# Altium footprint library con-mini-fit.PcbLib: 51 footprints (part 3 of 4)
Each footprint in its own frame and in the unit in brackets; x right, y up, seen from the top. Pads: shape width x height; smd on the part's side, far side on the other; paste and mask are expansions set on the pad; w line width, h text height; cw(c..) or ccw(c..) is an arc to the next point about the centre after c.
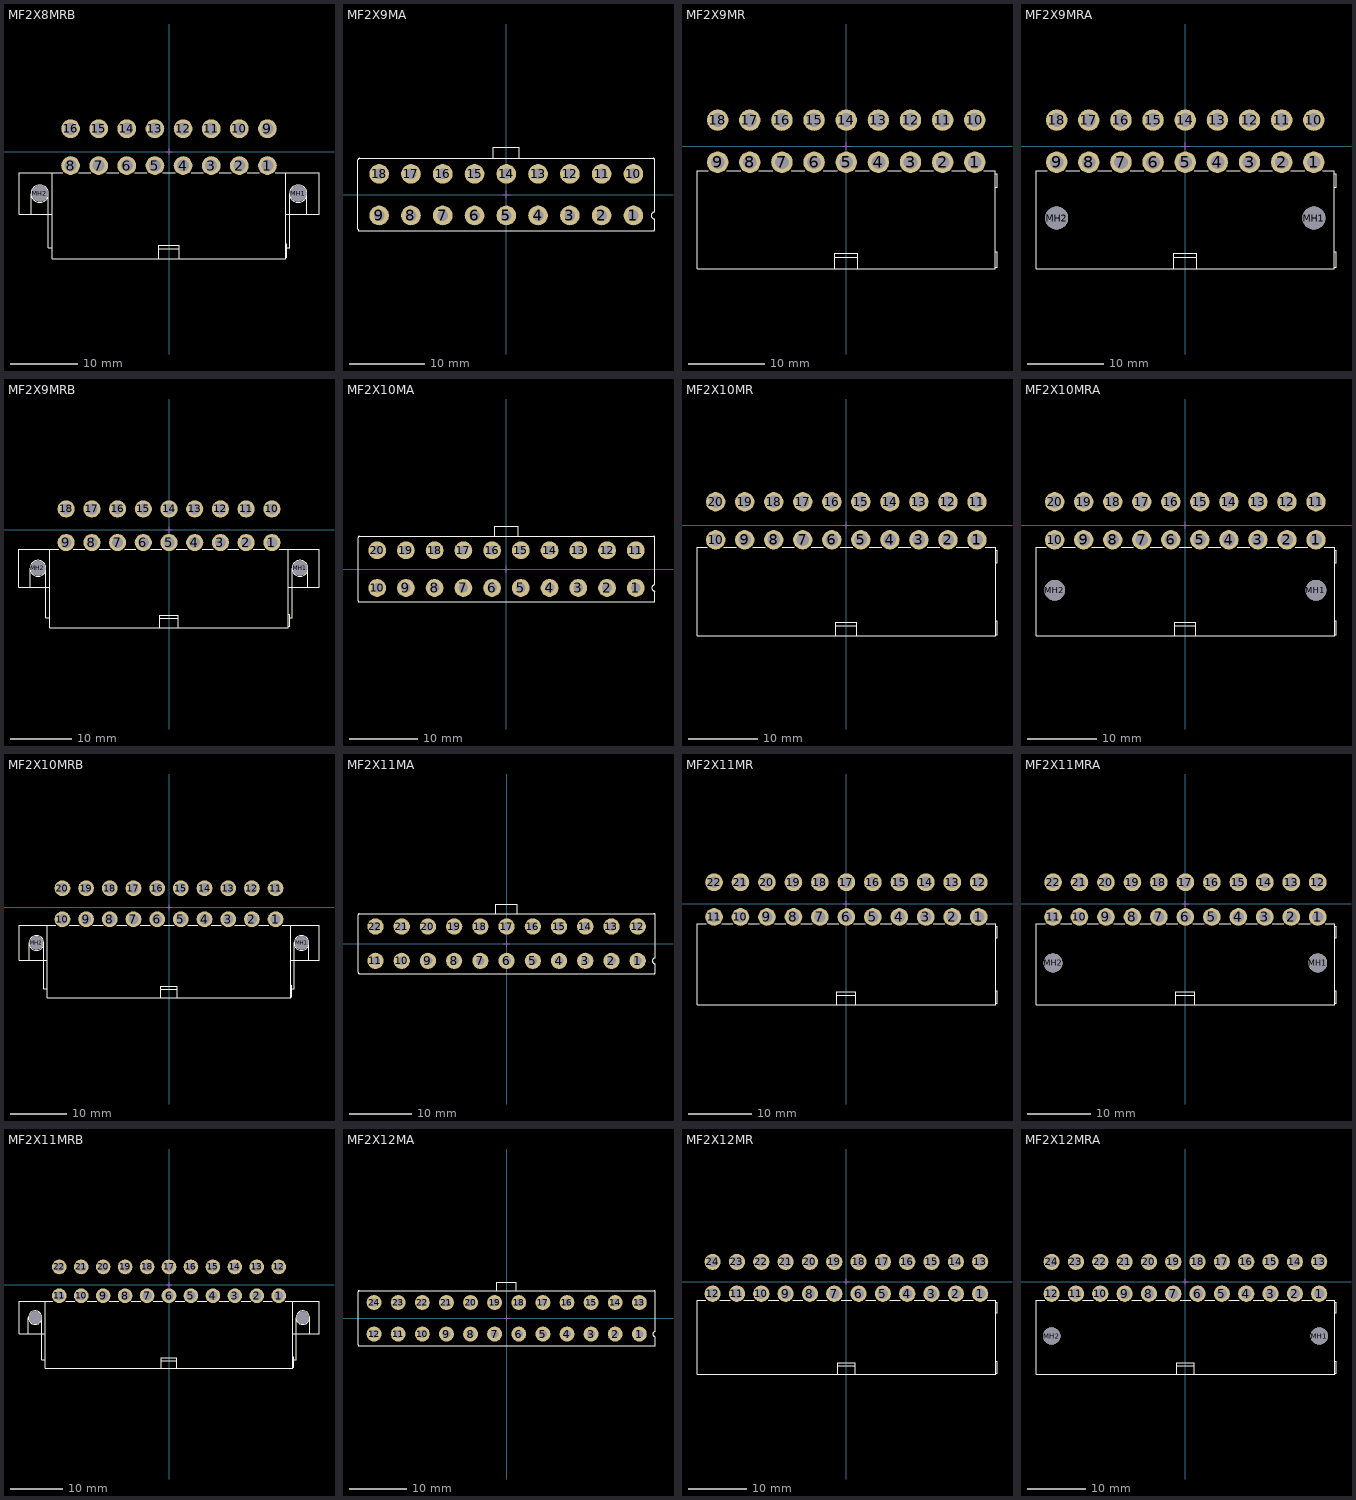
[diagram p2: the footprints below, top view; thin cyan lines are the x and y axes]

## MF2X8MRB [mm]
pads (18):
  round 2.8 / inner round 1.524 / far side round 2.8 hole 1.8: 1(14.7,-2.1) 2(10.5,-2.1) 3(6.3,-2.1) 4(2.1,-2.1) 5(-2.1,-2.1) 6(-6.3,-2.1) 7(-10.5,-2.1) 8(-14.7,-2.1) 9(14.7,3.4) 10(10.5,3.4) 11(6.3,3.4) 12(2.1,3.4) 13(-2.1,3.4) 14(-6.3,3.4) 15(-10.5,3.4) 16(-14.7,3.4)
  round 2.4 hole 2.4 unplated: MH1(19.3,-6.3) MH2(-19.3,-6.3)
Top Overlay:
  circle w0.1: c19.3,-6.3 r1.3
  circle w0.1: c-19.3,-6.3 r1.3
  lines w0.1: -20.6,-9.4 -20.6,-6.3 ; -18,-6.3 -18,-9.4 -18,-14.4 -17.4,-14.4 ; 17.6,-14.4 18,-14.4 18,-9.4 18,-6.3 ; 20.6,-9.4 20.6,-6.3
  lines w0.127: -17.4,-9.4 -18,-9.4 -20.6,-9.4 -22.4,-9.4 -22.4,-3.2 -17.4,-3.2 ; -15.9,-3.2 -17.4,-3.2 ; -13.5,-3.2 -11.7,-3.2 ; -9.3,-3.2 -7.5,-3.2 ; -5.1,-3.2 -3.3,-3.2 ; -0.9,-3.2 0.9,-3.2 ; 3.3,-3.2 5.1,-3.2 ; 7.5,-3.2 9.3,-3.2 ; 11.7,-3.2 13.5,-3.2 ; 15.9,-3.2 17.4,-3.2 ; 17.4,-9.4 18,-9.4 20.6,-9.4 22.4,-9.4 22.4,-3.2 17.4,-3.2 ; -17.4,-3.2 -17.4,-16 -1.5,-16 ; -1.5,-16 1.5,-16 ; -1.5,-16 -1.5,-14.5 ; -1.5,-14.5 1.5,-14.5 ; -1.5,-14.5 -1.5,-14 1.5,-14 1.5,-14.5 ; 1.5,-16 17.4,-16 17.4,-15.8 ; 1.5,-16 1.5,-14.5 ; 17.4,-15.8 17.4,-13.8 ; 17.4,-15.8 17.6,-15.8 17.6,-13.8 17.4,-13.8 ; 17.4,-13.8 17.4,-5.4 17.4,-3.6 17.4,-3.2
Top Courtyard:
  lines w0.1: -0.5,0 0.5,0 ; 0,-0.5 0,0.5
3D body "39-30-1160.stp": height 11.4, standoff -3.6, extent -17.4,-16 17.8,3.935

## MF2X9MA [mm]
pads (18):
  round 2.6 / inner round 1.524 / far side round 2.6 hole 1.4: 1(16.8,-2.75) 2(12.6,-2.75) 3(8.4,-2.75) 4(4.2,-2.75) 5(0,-2.75) 6(-4.2,-2.75) 7(-8.4,-2.75) 8(-12.6,-2.75) 9(-16.8,-2.75) 10(16.8,2.75) 11(12.6,2.75) 12(8.4,2.75) 13(4.2,2.75) 14(0,2.75) 15(-4.2,2.75) 16(-8.4,2.75) 17(-12.6,2.75) 18(-16.8,2.75)
Top Overlay:
  lines w0.127: -1.7,4.8 -19.4,4.8 ccw(c-19.4,4.6) -19.6,4.6 -19.6,-4.6 ccw(c-19.4,-4.6) -19.4,-4.8 19.4,-4.8 ccw(c19.4,-4.6) 19.6,-4.6 19.6,-3.2 cw(c19.6,-2.75) 19.6,-2.3 19.6,4.6 ccw(c19.4,4.6) 19.4,4.8 1.7,4.8 ; -1.7,4.8 1.7,4.8 ; -1.7,4.8 -1.7,6.3 1.7,6.3 1.7,4.8
Top Courtyard:
  lines w0.1: -0.5,0 0.5,0 ; 0,-0.5 0,0.5

## MF2X9MR [mm]
pads (18):
  round 2.8 / inner round 1.524 / far side round 2.8 hole 1.8: 1(16.8,-2.1) 2(12.6,-2.1) 3(8.4,-2.1) 4(4.2,-2.1) 5(0,-2.1) 6(-4.2,-2.1) 7(-8.4,-2.1) 8(-12.6,-2.1) 9(-16.8,-2.1) 10(16.8,3.4) 11(12.6,3.4) 12(8.4,3.4) 13(4.2,3.4) 14(0,3.4) 15(-4.2,3.4) 16(-8.4,3.4) 17(-12.6,3.4) 18(-16.8,3.4)
Top Overlay:
  lines w0.127: -18,-3.2 -19.5,-3.2 -19.5,-16 -1.5,-16 ; -15.6,-3.2 -13.8,-3.2 ; -11.4,-3.2 -9.6,-3.2 ; -7.2,-3.2 -5.4,-3.2 ; -3,-3.2 -1.2,-3.2 ; 1.2,-3.2 3,-3.2 ; 5.4,-3.2 7.2,-3.2 ; 9.6,-3.2 11.4,-3.2 ; 13.8,-3.2 15.6,-3.2 ; 18,-3.2 19.5,-3.2 19.5,-3.6 ; -1.5,-16 1.5,-16 ; -1.5,-16 -1.5,-14.5 ; -1.5,-14.5 1.5,-14.5 ; -1.5,-14.5 -1.5,-14 1.5,-14 1.5,-14.5 ; 1.5,-16 19.5,-16 19.5,-15.8 ; 1.5,-16 1.5,-14.5 ; 19.5,-15.8 19.5,-13.8 ; 19.5,-15.8 19.7,-15.8 19.7,-13.8 19.5,-13.8 ; 19.5,-13.8 19.5,-5.4 ; 19.5,-5.4 19.5,-3.6 ; 19.5,-5.4 19.7,-5.4 19.7,-3.6 19.5,-3.6
Top Courtyard:
  lines w0.1: -0.5,0 0.5,0 ; 0,-0.5 0,0.5
3D body "39-30-1180.stp": height 11.4, standoff -3.6, extent -19.5,-16 19.9,3.935

## MF2X9MRA [mm]
pads (20):
  round 2.8 / inner round 1.524 / far side round 2.8 hole 1.8: 1(16.8,-2.1) 2(12.6,-2.1) 3(8.4,-2.1) 4(4.2,-2.1) 5(0,-2.1) 6(-4.2,-2.1) 7(-8.4,-2.1) 8(-12.6,-2.1) 9(-16.8,-2.1) 10(16.8,3.4) 11(12.6,3.4) 12(8.4,3.4) 13(4.2,3.4) 14(0,3.4) 15(-4.2,3.4) 16(-8.4,3.4) 17(-12.6,3.4) 18(-16.8,3.4)
  round 3 hole 3 unplated: MH1(16.8,-9.4) MH2(-16.8,-9.4)
Top Overlay:
  lines w0.127: -18,-3.2 -19.5,-3.2 -19.5,-16 -1.5,-16 ; -15.6,-3.2 -13.8,-3.2 ; -11.4,-3.2 -9.6,-3.2 ; -7.2,-3.2 -5.4,-3.2 ; -3,-3.2 -1.2,-3.2 ; 1.2,-3.2 3,-3.2 ; 5.4,-3.2 7.2,-3.2 ; 9.6,-3.2 11.4,-3.2 ; 13.8,-3.2 15.6,-3.2 ; 18,-3.2 19.5,-3.2 19.5,-3.6 ; -1.5,-16 -1.5,-14.5 ; -1.5,-16 1.5,-16 ; -1.5,-14.5 -1.5,-14 1.5,-14 1.5,-14.5 ; -1.5,-14.5 1.5,-14.5 ; 1.5,-16 1.5,-14.5 ; 1.5,-16 19.5,-16 19.5,-15.8 ; 19.5,-15.8 19.7,-15.8 19.7,-13.8 19.5,-13.8 ; 19.5,-15.8 19.5,-13.8 ; 19.5,-13.8 19.5,-5.4 ; 19.5,-5.4 19.7,-5.4 19.7,-3.6 19.5,-3.6 ; 19.5,-5.4 19.5,-3.6
Top Courtyard:
  lines w0.1: -0.5,0 0.5,0 ; 0,-0.5 0,0.5
3D body "39-30-1180.stp": height 11.4, standoff -3.6, extent -19.5,-16 19.9,3.935

## MF2X9MRB [mm]
pads (20):
  round 2.8 / inner round 1.524 / far side round 2.8 hole 1.8: 1(16.8,-2.1) 2(12.6,-2.1) 3(8.4,-2.1) 4(4.2,-2.1) 5(0,-2.1) 6(-4.2,-2.1) 7(-8.4,-2.1) 8(-12.6,-2.1) 9(-16.8,-2.1) 10(16.8,3.4) 11(12.6,3.4) 12(8.4,3.4) 13(4.2,3.4) 14(0,3.4) 15(-4.2,3.4) 16(-8.4,3.4) 17(-12.6,3.4) 18(-16.8,3.4)
  round 2.4 hole 2.4 unplated: MH1(21.4,-6.3) MH2(-21.4,-6.3)
Top Overlay:
  circle w0.1: c21.4,-6.3 r1.3
  circle w0.1: c-21.4,-6.3 r1.3
  lines w0.1: -22.7,-9.4 -22.7,-6.3 ; -20.1,-6.3 -20.1,-9.4 -20.1,-14.4 -19.5,-14.4 ; 19.7,-14.4 20.1,-14.4 20.1,-9.4 20.1,-6.3 ; 22.7,-9.4 22.7,-6.3
  lines w0.127: -19.5,-9.4 -20.1,-9.4 -22.7,-9.4 -24.5,-9.4 -24.5,-3.2 -19.5,-3.2 ; -18,-3.2 -19.5,-3.2 ; -15.6,-3.2 -13.8,-3.2 ; -11.4,-3.2 -9.6,-3.2 ; -7.2,-3.2 -5.4,-3.2 ; -3,-3.2 -1.2,-3.2 ; 1.2,-3.2 3,-3.2 ; 5.4,-3.2 7.2,-3.2 ; 9.6,-3.2 11.4,-3.2 ; 13.8,-3.2 15.6,-3.2 ; 18,-3.2 19.5,-3.2 ; 19.5,-9.4 20.1,-9.4 22.7,-9.4 24.5,-9.4 24.5,-3.2 19.5,-3.2 ; -19.5,-3.2 -19.5,-16 -1.5,-16 ; -1.5,-16 1.5,-16 ; -1.5,-16 -1.5,-14.5 ; -1.5,-14.5 1.5,-14.5 ; -1.5,-14.5 -1.5,-14 1.5,-14 1.5,-14.5 ; 1.5,-16 19.5,-16 19.5,-15.8 ; 1.5,-16 1.5,-14.5 ; 19.5,-15.8 19.5,-13.8 ; 19.5,-15.8 19.7,-15.8 19.7,-13.8 19.5,-13.8 ; 19.5,-13.8 19.5,-5.4 19.5,-3.6 19.5,-3.2
Top Courtyard:
  lines w0.1: -0.5,0 0.5,0 ; 0,-0.5 0,0.5
3D body "39-30-1180.stp": height 11.4, standoff -3.6, extent -19.5,-16 19.9,3.935

## MF2X10MA [mm]
pads (20):
  round 2.6 / inner round 1.524 / far side round 2.6 hole 1.4: 1(18.9,-2.75) 2(14.7,-2.75) 3(10.5,-2.75) 4(6.3,-2.75) 5(2.1,-2.75) 6(-2.1,-2.75) 7(-6.3,-2.75) 8(-10.5,-2.75) 9(-14.7,-2.75) 10(-18.9,-2.75) 11(18.9,2.75) 12(14.7,2.75) 13(10.5,2.75) 14(6.3,2.75) 15(2.1,2.75) 16(-2.1,2.75) 17(-6.3,2.75) 18(-10.5,2.75) 19(-14.7,2.75) 20(-18.9,2.75)
Top Overlay:
  lines w0.127: -1.7,4.8 -1.7,6.3 1.7,6.3 1.7,4.8 ; -1.7,4.8 1.7,4.8 ; -1.7,4.8 -21.5,4.8 ccw(c-21.5,4.6) -21.7,4.6 -21.7,-4.6 ccw(c-21.5,-4.6) -21.5,-4.8 21.5,-4.8 ccw(c21.5,-4.6) 21.7,-4.6 21.7,-3.2 cw(c21.7,-2.75) 21.7,-2.3 21.7,4.6 ccw(c21.5,4.6) 21.5,4.8 1.7,4.8
Top Courtyard:
  lines w0.1: -0.5,0 0.5,0 ; 0,-0.5 0,0.5

## MF2X10MR [mm]
pads (20):
  round 2.8 / inner round 1.524 / far side round 2.8 hole 1.8: 1(18.9,-2.1) 2(14.7,-2.1) 3(10.5,-2.1) 4(6.3,-2.1) 5(2.1,-2.1) 6(-2.1,-2.1) 7(-6.3,-2.1) 8(-10.5,-2.1) 9(-14.7,-2.1) 10(-18.9,-2.1) 11(18.9,3.4) 12(14.7,3.4) 13(10.5,3.4) 14(6.3,3.4) 15(2.1,3.4) 16(-2.1,3.4) 17(-6.3,3.4) 18(-10.5,3.4) 19(-14.7,3.4) 20(-18.9,3.4)
Top Overlay:
  lines w0.127: -20.1,-3.2 -21.6,-3.2 -21.6,-16 -1.5,-16 ; -17.7,-3.2 -15.9,-3.2 ; -13.5,-3.2 -11.7,-3.2 ; -9.3,-3.2 -7.5,-3.2 ; -5.1,-3.2 -3.3,-3.2 ; -0.9,-3.2 0.9,-3.2 ; 3.3,-3.2 5.1,-3.2 ; 7.5,-3.2 9.3,-3.2 ; 11.7,-3.2 13.5,-3.2 ; 15.9,-3.2 17.7,-3.2 ; 20.1,-3.2 21.6,-3.2 21.6,-3.6 ; -1.5,-16 1.5,-16 ; -1.5,-16 -1.5,-14.5 ; -1.5,-14.5 1.5,-14.5 ; -1.5,-14.5 -1.5,-14 1.5,-14 1.5,-14.5 ; 1.5,-16 21.6,-16 21.6,-15.8 ; 1.5,-16 1.5,-14.5 ; 21.6,-15.8 21.6,-13.8 ; 21.6,-15.8 21.8,-15.8 21.8,-13.8 21.6,-13.8 ; 21.6,-13.8 21.6,-5.4 ; 21.6,-5.4 21.6,-3.6 ; 21.6,-5.4 21.8,-5.4 21.8,-3.6 21.6,-3.6
Top Courtyard:
  lines w0.1: -0.5,0 0.5,0 ; 0,-0.5 0,0.5

## MF2X10MRA [mm]
pads (22):
  round 2.8 / inner round 1.524 / far side round 2.8 hole 1.8: 1(18.9,-2.1) 2(14.7,-2.1) 3(10.5,-2.1) 4(6.3,-2.1) 5(2.1,-2.1) 6(-2.1,-2.1) 7(-6.3,-2.1) 8(-10.5,-2.1) 9(-14.7,-2.1) 10(-18.9,-2.1) 11(18.9,3.4) 12(14.7,3.4) 13(10.5,3.4) 14(6.3,3.4) 15(2.1,3.4) 16(-2.1,3.4) 17(-6.3,3.4) 18(-10.5,3.4) 19(-14.7,3.4) 20(-18.9,3.4)
  round 3 hole 3 unplated: MH1(18.9,-9.4) MH2(-18.9,-9.4)
Top Overlay:
  lines w0.127: -20.1,-3.2 -21.6,-3.2 -21.6,-16 -1.5,-16 ; -17.7,-3.2 -15.9,-3.2 ; -13.5,-3.2 -11.7,-3.2 ; -9.3,-3.2 -7.5,-3.2 ; -5.1,-3.2 -3.3,-3.2 ; -0.9,-3.2 0.9,-3.2 ; 3.3,-3.2 5.1,-3.2 ; 7.5,-3.2 9.3,-3.2 ; 11.7,-3.2 13.5,-3.2 ; 15.9,-3.2 17.7,-3.2 ; 20.1,-3.2 21.6,-3.2 21.6,-3.6 ; -1.5,-16 -1.5,-14.5 ; -1.5,-16 1.5,-16 ; -1.5,-14.5 -1.5,-14 1.5,-14 1.5,-14.5 ; -1.5,-14.5 1.5,-14.5 ; 1.5,-16 1.5,-14.5 ; 1.5,-16 21.6,-16 21.6,-15.8 ; 21.6,-15.8 21.8,-15.8 21.8,-13.8 21.6,-13.8 ; 21.6,-15.8 21.6,-13.8 ; 21.6,-13.8 21.6,-5.4 ; 21.6,-5.4 21.8,-5.4 21.8,-3.6 21.6,-3.6 ; 21.6,-5.4 21.6,-3.6
Top Courtyard:
  lines w0.1: -0.5,0 0.5,0 ; 0,-0.5 0,0.5

## MF2X10MRB [mm]
pads (22):
  round 2.8 / inner round 1.524 / far side round 2.8 hole 1.8: 1(18.9,-2.1) 2(14.7,-2.1) 3(10.5,-2.1) 4(6.3,-2.1) 5(2.1,-2.1) 6(-2.1,-2.1) 7(-6.3,-2.1) 8(-10.5,-2.1) 9(-14.7,-2.1) 10(-18.9,-2.1) 11(18.9,3.4) 12(14.7,3.4) 13(10.5,3.4) 14(6.3,3.4) 15(2.1,3.4) 16(-2.1,3.4) 17(-6.3,3.4) 18(-10.5,3.4) 19(-14.7,3.4) 20(-18.9,3.4)
  round 2.4 hole 2.4 unplated: MH1(23.5,-6.3) MH2(-23.5,-6.3)
Top Overlay:
  circle w0.1: c-23.5,-6.3 r1.3
  circle w0.1: c23.5,-6.3 r1.3
  lines w0.1: -24.8,-9.4 -24.8,-6.3 ; -22.2,-6.3 -22.2,-9.4 -22.2,-14.4 -21.6,-14.4 ; 21.8,-14.4 22.2,-14.4 22.2,-9.4 22.2,-6.3 ; 24.8,-9.4 24.8,-6.3
  lines w0.127: -20.1,-3.2 -21.6,-3.2 ; -17.7,-3.2 -15.9,-3.2 ; -13.5,-3.2 -11.7,-3.2 ; -9.3,-3.2 -7.5,-3.2 ; -5.1,-3.2 -3.3,-3.2 ; -0.9,-3.2 0.9,-3.2 ; 3.3,-3.2 5.1,-3.2 ; 7.5,-3.2 9.3,-3.2 ; 11.7,-3.2 13.5,-3.2 ; 15.9,-3.2 17.7,-3.2 ; 20.1,-3.2 21.6,-3.2 ; -21.6,-9.4 -21.6,-3.2 ; -21.6,-9.4 -21.6,-14.4 -21.6,-16 -1.5,-16 ; -21.6,-9.4 -22.2,-9.4 -24.8,-9.4 -26.6,-9.4 -26.6,-3.2 -21.6,-3.2 ; -1.5,-16 1.5,-16 ; -1.5,-16 -1.5,-14.5 ; -1.5,-14.5 1.5,-14.5 ; -1.5,-14.5 -1.5,-14 1.5,-14 1.5,-14.5 ; 1.5,-16 21.6,-16 21.6,-15.8 ; 1.5,-16 1.5,-14.5 ; 21.6,-15.8 21.6,-13.8 ; 21.6,-15.8 21.8,-15.8 21.8,-14.4 21.8,-13.8 21.6,-13.8 ; 21.6,-13.8 21.6,-9.4 ; 21.6,-9.4 21.6,-5.4 21.6,-3.6 21.6,-3.2 ; 21.6,-9.4 22.2,-9.4 24.8,-9.4 26.6,-9.4 26.6,-3.2 21.6,-3.2
Top Courtyard:
  lines w0.1: -0.5,0 0.5,0 ; 0,-0.5 0,0.5

## MF2X11MA [mm]
pads (22):
  round 2.6 / inner round 1.524 / far side round 2.6 hole 1.4: 1(21,-2.75) 2(16.8,-2.75) 3(12.6,-2.75) 4(8.4,-2.75) 5(4.2,-2.75) 6(0,-2.75) 7(-4.2,-2.75) 8(-8.4,-2.75) 9(-12.6,-2.75) 10(-16.8,-2.75) 11(-21,-2.75) 12(21,2.75) 13(16.8,2.75) 14(12.6,2.75) 15(8.4,2.75) 16(4.2,2.75) 17(0,2.75) 18(-4.2,2.75) 19(-8.4,2.75) 20(-12.6,2.75) 21(-16.8,2.75) 22(-21,2.75)
Top Overlay:
  lines w0.127: -1.7,4.8 -1.7,6.3 1.7,6.3 1.7,4.8 ; -1.7,4.8 1.7,4.8 ; -1.7,4.8 -23.6,4.8 ccw(c-23.6,4.6) -23.8,4.6 -23.8,-4.6 ccw(c-23.6,-4.6) -23.6,-4.8 23.6,-4.8 ccw(c23.6,-4.6) 23.8,-4.6 23.8,-3.2 cw(c23.8,-2.75) 23.8,-2.3 23.8,4.6 ccw(c23.6,4.6) 23.6,4.8 1.7,4.8
Top Courtyard:
  lines w0.1: -0.5,0 0.5,0 ; 0,-0.5 0,0.5

## MF2X11MR [mm]
pads (22):
  round 2.8 / inner round 1.524 / far side round 2.8 hole 1.8: 1(21,-2.1) 2(16.8,-2.1) 3(12.6,-2.1) 4(8.4,-2.1) 5(4.2,-2.1) 6(0,-2.1) 7(-4.2,-2.1) 8(-8.4,-2.1) 9(-12.6,-2.1) 10(-16.8,-2.1) 11(-21,-2.1) 12(21,3.4) 13(16.8,3.4) 14(12.6,3.4) 15(8.4,3.4) 16(4.2,3.4) 17(0,3.4) 18(-4.2,3.4) 19(-8.4,3.4) 20(-12.6,3.4) 21(-16.8,3.4) 22(-21,3.4)
Top Overlay:
  lines w0.127: -22.2,-3.2 -23.7,-3.2 -23.7,-16 -1.5,-16 ; -19.8,-3.2 -18,-3.2 ; -15.6,-3.2 -13.8,-3.2 ; -11.4,-3.2 -9.6,-3.2 ; -7.2,-3.2 -5.4,-3.2 ; -3,-3.2 -1.2,-3.2 ; 1.2,-3.2 3,-3.2 ; 5.4,-3.2 7.2,-3.2 ; 9.6,-3.2 11.4,-3.2 ; 13.8,-3.2 15.6,-3.2 ; 18,-3.2 19.8,-3.2 ; 22.2,-3.2 23.7,-3.2 23.7,-3.6 ; -1.5,-16 1.5,-16 ; -1.5,-16 -1.5,-14.5 ; -1.5,-14.5 1.5,-14.5 ; -1.5,-14.5 -1.5,-14 1.5,-14 1.5,-14.5 ; 1.5,-16 23.7,-16 23.7,-15.8 ; 1.5,-16 1.5,-14.5 ; 23.7,-15.8 23.7,-13.8 ; 23.7,-15.8 23.9,-15.8 23.9,-13.8 23.7,-13.8 ; 23.7,-13.8 23.7,-5.4 ; 23.7,-5.4 23.7,-3.6 ; 23.7,-5.4 23.9,-5.4 23.9,-3.6 23.7,-3.6
Top Courtyard:
  lines w0.1: -0.5,0 0.5,0 ; 0,-0.5 0,0.5

## MF2X11MRA [mm]
pads (24):
  round 2.8 / inner round 1.524 / far side round 2.8 hole 1.8: 1(21,-2.1) 2(16.8,-2.1) 3(12.6,-2.1) 4(8.4,-2.1) 5(4.2,-2.1) 6(0,-2.1) 7(-4.2,-2.1) 8(-8.4,-2.1) 9(-12.6,-2.1) 10(-16.8,-2.1) 11(-21,-2.1) 12(21,3.4) 13(16.8,3.4) 14(12.6,3.4) 15(8.4,3.4) 16(4.2,3.4) 17(0,3.4) 18(-4.2,3.4) 19(-8.4,3.4) 20(-12.6,3.4) 21(-16.8,3.4) 22(-21,3.4)
  round 3 hole 3 unplated: MH1(21,-9.4) MH2(-21,-9.4)
Top Overlay:
  lines w0.127: -22.2,-3.2 -23.7,-3.2 -23.7,-16 -1.5,-16 ; -19.8,-3.2 -18,-3.2 ; -15.6,-3.2 -13.8,-3.2 ; -11.4,-3.2 -9.6,-3.2 ; -7.2,-3.2 -5.4,-3.2 ; -3,-3.2 -1.2,-3.2 ; 1.2,-3.2 3,-3.2 ; 5.4,-3.2 7.2,-3.2 ; 9.6,-3.2 11.4,-3.2 ; 13.8,-3.2 15.6,-3.2 ; 18,-3.2 19.8,-3.2 ; 22.2,-3.2 23.7,-3.2 23.7,-3.6 ; -1.5,-16 -1.5,-14.5 ; -1.5,-16 1.5,-16 ; -1.5,-14.5 -1.5,-14 1.5,-14 1.5,-14.5 ; -1.5,-14.5 1.5,-14.5 ; 1.5,-16 1.5,-14.5 ; 1.5,-16 23.7,-16 23.7,-15.8 ; 23.7,-15.8 23.9,-15.8 23.9,-13.8 23.7,-13.8 ; 23.7,-15.8 23.7,-13.8 ; 23.7,-13.8 23.7,-5.4 ; 23.7,-5.4 23.9,-5.4 23.9,-3.6 23.7,-3.6 ; 23.7,-5.4 23.7,-3.6
Top Courtyard:
  lines w0.1: -0.5,0 0.5,0 ; 0,-0.5 0,0.5

## MF2X11MRB [mm]
pads (24):
  round 2.8 / inner round 1.524 / far side round 2.8 hole 1.8: 1(21,-2.1) 2(16.8,-2.1) 3(12.6,-2.1) 4(8.4,-2.1) 5(4.2,-2.1) 6(0,-2.1) 7(-4.2,-2.1) 8(-8.4,-2.1) 9(-12.6,-2.1) 10(-16.8,-2.1) 11(-21,-2.1) 12(21,3.4) 13(16.8,3.4) 14(12.6,3.4) 15(8.4,3.4) 16(4.2,3.4) 17(0,3.4) 18(-4.2,3.4) 19(-8.4,3.4) 20(-12.6,3.4) 21(-16.8,3.4) 22(-21,3.4)
  round 2.4 hole 2.4 unplated: MH1(25.6,-6.3) MH2(-25.6,-6.3)
Top Overlay:
  circle w0.1: c-25.6,-6.3 r1.3
  circle w0.1: c25.6,-6.3 r1.3
  lines w0.1: -26.9,-9.4 -26.9,-6.3 ; -24.3,-6.3 -24.3,-9.4 -24.3,-14.4 -23.7,-14.4 ; 23.9,-14.4 24.3,-14.4 24.3,-9.4 24.3,-6.3 ; 26.9,-9.4 26.9,-6.3
  lines w0.127: -22.2,-3.2 -23.7,-3.2 ; -19.8,-3.2 -18,-3.2 ; -15.6,-3.2 -13.8,-3.2 ; -11.4,-3.2 -9.6,-3.2 ; -7.2,-3.2 -5.4,-3.2 ; -3,-3.2 -1.2,-3.2 ; 1.2,-3.2 3,-3.2 ; 5.4,-3.2 7.2,-3.2 ; 9.6,-3.2 11.4,-3.2 ; 13.8,-3.2 15.6,-3.2 ; 18,-3.2 19.8,-3.2 ; 22.2,-3.2 23.7,-3.2 ; -23.7,-9.4 -23.7,-3.2 ; -23.7,-9.4 -23.7,-14.4 -23.7,-16 -1.5,-16 ; -23.7,-9.4 -24.3,-9.4 -26.9,-9.4 -28.7,-9.4 -28.7,-3.2 -23.7,-3.2 ; -1.5,-16 1.5,-16 ; -1.5,-16 -1.5,-14.5 ; -1.5,-14.5 1.5,-14.5 ; -1.5,-14.5 -1.5,-14 1.5,-14 1.5,-14.5 ; 1.5,-16 23.7,-16 23.7,-15.8 ; 1.5,-16 1.5,-14.5 ; 23.7,-15.8 23.7,-13.8 ; 23.7,-15.8 23.9,-15.8 23.9,-14.4 23.9,-13.8 23.7,-13.8 ; 23.7,-13.8 23.7,-9.4 ; 23.7,-9.4 23.7,-5.4 23.7,-3.6 23.7,-3.2 ; 23.7,-9.4 24.3,-9.4 26.9,-9.4 28.7,-9.4 28.7,-3.2 23.7,-3.2
Top Courtyard:
  lines w0.1: -0.5,0 0.5,0 ; 0,-0.5 0,0.5

## MF2X12MA [mm]
pads (24):
  round 2.6 / inner round 1.524 / far side round 2.6 hole 1.4: 1(23.1,-2.75) 2(18.9,-2.75) 3(14.7,-2.75) 4(10.5,-2.75) 5(6.3,-2.75) 6(2.1,-2.75) 7(-2.1,-2.75) 8(-6.3,-2.75) 9(-10.5,-2.75) 10(-14.7,-2.75) 11(-18.9,-2.75) 12(-23.1,-2.75) 13(23.1,2.75) 14(18.9,2.75) 15(14.7,2.75) 16(10.5,2.75) 17(6.3,2.75) 18(2.1,2.75) 19(-2.1,2.75) 20(-6.3,2.75) 21(-10.5,2.75) 22(-14.7,2.75) 23(-18.9,2.75) 24(-23.1,2.75)
Top Overlay:
  lines w0.127: -1.7,4.8 -25.7,4.8 ccw(c-25.7,4.6) -25.9,4.6 -25.9,-4.6 ccw(c-25.7,-4.6) -25.7,-4.8 25.7,-4.8 ccw(c25.7,-4.6) 25.9,-4.6 25.9,-3.2 cw(c25.9,-2.75) 25.9,-2.3 25.9,4.6 ccw(c25.7,4.6) 25.7,4.8 1.7,4.8 ; -1.7,4.8 1.7,4.8 ; -1.7,4.8 -1.7,6.3 1.7,6.3 1.7,4.8
Top Courtyard:
  lines w0.1: -0.5,0 0.5,0 ; 0,-0.5 0,0.5

## MF2X12MR [mm]
pads (24):
  round 2.8 / inner round 1.524 / far side round 2.8 hole 1.8: 1(23.1,-2.1) 2(18.9,-2.1) 3(14.7,-2.1) 4(10.5,-2.1) 5(6.3,-2.1) 6(2.1,-2.1) 7(-2.1,-2.1) 8(-6.3,-2.1) 9(-10.5,-2.1) 10(-14.7,-2.1) 11(-18.9,-2.1) 12(-23.1,-2.1) 13(23.1,3.4) 14(18.9,3.4) 15(14.7,3.4) 16(10.5,3.4) 17(6.3,3.4) 18(2.1,3.4) 19(-2.1,3.4) 20(-6.3,3.4) 21(-10.5,3.4) 22(-14.7,3.4) 23(-18.9,3.4) 24(-23.1,3.4)
Top Overlay:
  lines w0.127: -24.3,-3.2 -25.8,-3.2 -25.8,-16 -1.5,-16 ; -21.9,-3.2 -20.1,-3.2 ; -17.7,-3.2 -15.9,-3.2 ; -13.5,-3.2 -11.7,-3.2 ; -9.3,-3.2 -7.5,-3.2 ; -5.1,-3.2 -3.3,-3.2 ; -0.9,-3.2 0.9,-3.2 ; 3.3,-3.2 5.1,-3.2 ; 7.5,-3.2 9.3,-3.2 ; 11.7,-3.2 13.5,-3.2 ; 15.9,-3.2 17.7,-3.2 ; 20.1,-3.2 21.9,-3.2 ; 24.3,-3.2 25.8,-3.2 25.8,-3.6 ; -1.5,-16 -1.5,-14.5 ; -1.5,-16 1.5,-16 ; -1.5,-14.5 -1.5,-14 1.5,-14 1.5,-14.5 ; -1.5,-14.5 1.5,-14.5 ; 1.5,-16 1.5,-14.5 ; 1.5,-16 25.8,-16 25.8,-15.8 ; 25.8,-15.8 26,-15.8 26,-13.8 25.8,-13.8 ; 25.8,-15.8 25.8,-13.8 ; 25.8,-13.8 25.8,-5.4 ; 25.8,-5.4 26,-5.4 26,-3.6 25.8,-3.6 ; 25.8,-5.4 25.8,-3.6
Top Courtyard:
  lines w0.1: -0.5,0 0.5,0 ; 0,-0.5 0,0.5

## MF2X12MRA [mm]
pads (26):
  round 2.8 / inner round 1.524 / far side round 2.8 hole 1.8: 1(23.1,-2.1) 2(18.9,-2.1) 3(14.7,-2.1) 4(10.5,-2.1) 5(6.3,-2.1) 6(2.1,-2.1) 7(-2.1,-2.1) 8(-6.3,-2.1) 9(-10.5,-2.1) 10(-14.7,-2.1) 11(-18.9,-2.1) 12(-23.1,-2.1) 13(23.1,3.4) 14(18.9,3.4) 15(14.7,3.4) 16(10.5,3.4) 17(6.3,3.4) 18(2.1,3.4) 19(-2.1,3.4) 20(-6.3,3.4) 21(-10.5,3.4) 22(-14.7,3.4) 23(-18.9,3.4) 24(-23.1,3.4)
  round 3 hole 3 unplated: MH1(23.1,-9.4) MH2(-23.1,-9.4)
Top Overlay:
  lines w0.127: -24.3,-3.2 -25.8,-3.2 -25.8,-16 -1.5,-16 ; -21.9,-3.2 -20.1,-3.2 ; -17.7,-3.2 -15.9,-3.2 ; -13.5,-3.2 -11.7,-3.2 ; -9.3,-3.2 -7.5,-3.2 ; -5.1,-3.2 -3.3,-3.2 ; -0.9,-3.2 0.9,-3.2 ; 3.3,-3.2 5.1,-3.2 ; 7.5,-3.2 9.3,-3.2 ; 11.7,-3.2 13.5,-3.2 ; 15.9,-3.2 17.7,-3.2 ; 20.1,-3.2 21.9,-3.2 ; 24.3,-3.2 25.8,-3.2 25.8,-3.6 ; -1.5,-16 -1.5,-14.5 ; -1.5,-16 1.5,-16 ; -1.5,-14.5 -1.5,-14 1.5,-14 1.5,-14.5 ; -1.5,-14.5 1.5,-14.5 ; 1.5,-16 1.5,-14.5 ; 1.5,-16 25.8,-16 25.8,-15.8 ; 25.8,-15.8 26,-15.8 26,-13.8 25.8,-13.8 ; 25.8,-15.8 25.8,-13.8 ; 25.8,-13.8 25.8,-5.4 ; 25.8,-5.4 26,-5.4 26,-3.6 25.8,-3.6 ; 25.8,-5.4 25.8,-3.6
Top Courtyard:
  lines w0.1: -0.5,0 0.5,0 ; 0,-0.5 0,0.5